# EAGLE library part TPS6120X-* (library DAC)
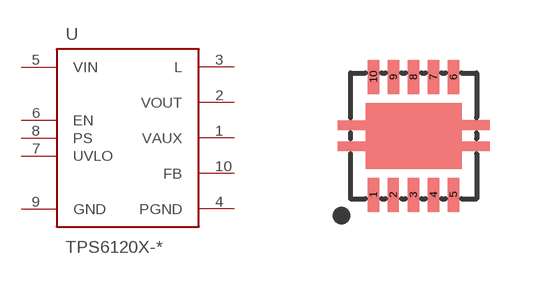
[diagram p18: symbol with the pads of TI-DRC; footprint TI-DRC]

Designator prefix U

## TPS6120X-DRC  [TI-DRC]
1  VAUX  pwr
2  VOUT  pwr
3  L  pwr
4  PGND  pwr
5  VIN  pwr
6  EN  in
7  UVLO  in
8  PS  in
9  GND  in
10  FB  in

## Footprint TI-DRC (pad centres in mm)
smd 0.28 x 0.85: 1 -1,-1.475; 2 -0.505,-1.475; 3 0,-1.475; 4 0.5,-1.475; 5 1,-1.475; 6 1,1.475; 7 0.5,1.475; 8 0,1.475; 9 -0.5,1.475; 10 -1,1.475